# Altium footprint library con-elco.PCBLIB: 1 footprints
Each footprint in its own frame and in the unit in brackets; x right, y up, seen from the top. Pads: shape width x height; smd on the part's side, far side on the other; paste and mask are expansions set on the pad; w line width, h text height; cw(c..) or ccw(c..) is an arc to the next point about the centre after c.
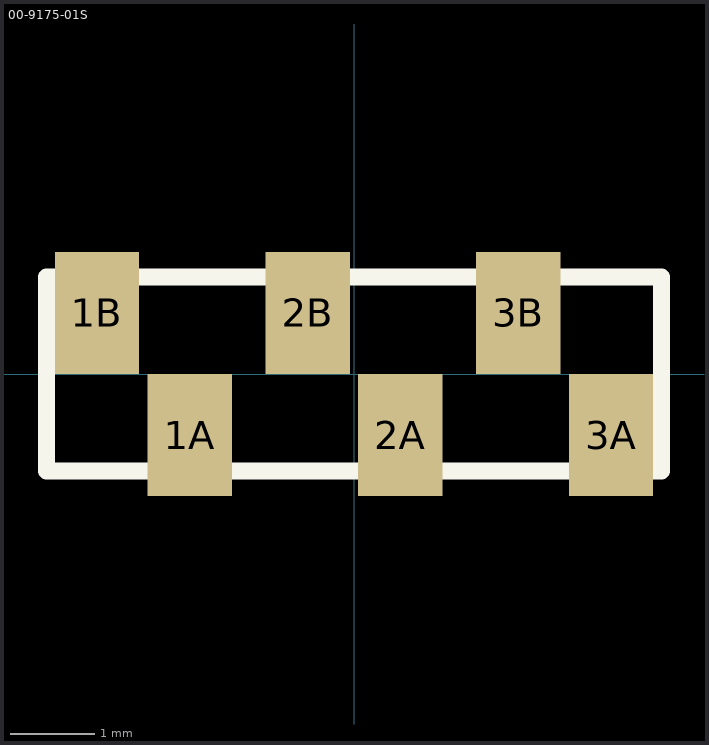
[diagram p0: the footprint, top view; thin cyan lines are the x and y axes]

## 00-9175-01S [mm]
pads (6):
  rect 1x1.45 smd: 1A(-1.95,-0.725) 1B(-3.05,0.725) 2A(0.55,-0.725) 2B(-0.55,0.725) 3A(3.05,-0.725) 3B(1.95,0.725)
Top Overlay:
  lines w0.203: -3.65,-1.15 3.65,-1.15 3.65,1.15 -3.65,1.15 -3.65,-1.15